# EAGLE library part LM2936 (library di_ic)
National Semiconductor - LDO Voltage Regulator, Vin up to 60V, load up to 50mA. http://www.national.com/ds/LM/LM2936.pdf
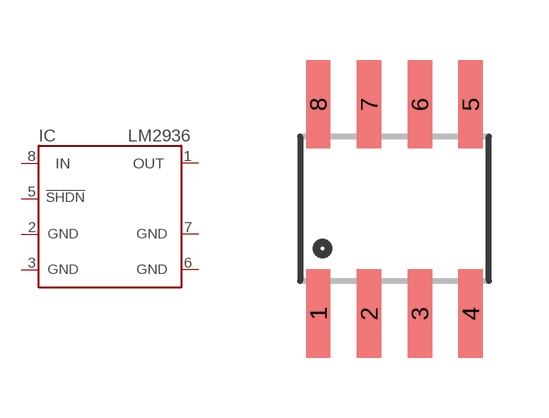
[diagram p43: symbol with the pads of SO08; footprint SO08]

Designator prefix IC

## LM2936  [SO08]
1  OUT  pwr
2  GND  pwr
3  GND  pwr
5  !SHDN  pwr
6  GND  pwr
7  GND  pwr
8  IN  pwr

## Footprint SO08 (pad centres in mm)
Small Outline Package Fits JEDEC packages (narrow SOIC-8)
smd 0.61 x 2.21: 1 -1.905,-2.616; 2 -0.635,-2.616; 3 0.635,-2.616; 4 1.905,-2.616; 5 1.905,2.616; 6 0.635,2.616; 7 -0.635,2.616; 8 -1.905,2.616